# Altium footprint library ROHM_TO-252-3.PcbLib: 1 footprints
Each footprint in its own frame and in the unit in brackets; x right, y up, seen from the top. Pads: shape width x height; smd on the part's side, far side on the other; paste and mask are expansions set on the pad; w line width, h text height; cw(c..) or ccw(c..) is an arc to the next point about the centre after c.
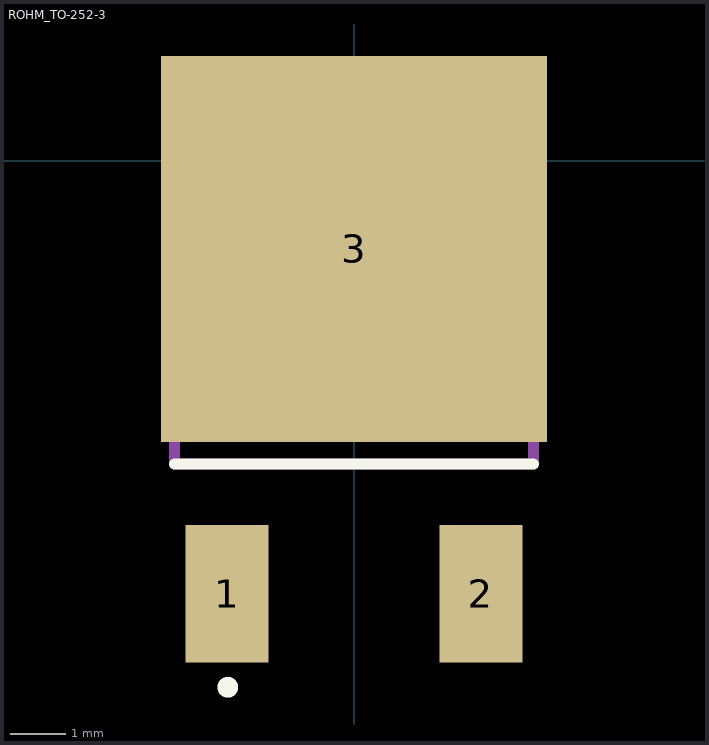
[diagram p0: the footprint, top view; thin cyan lines are the x and y axes]

## ROHM_TO-252-3 [mm]
pads (3):
  rect 1.5x2.5 smd: 1(-2.3,-7.85) 2(2.3,-7.85)
  rect 7x7 smd: 3(0,-1.6)
Top Overlay:
  circle w0.2: c-2.288,-9.545 r0.089
  lines w0.2: -3.25,-5.5 3.25,-5.5
Mechanical 15:
  lines w0.2: -3.25,-5.5 3.25,-5.5 3.25,0 -3.25,0 -3.25,-5.5
3D body "BA033CC0FP-E2.stp": height 5.8, standoff -4.65, extent -10,-3.376 10,3.376